# EAGLE library part JP5Q_CUSTOM (library jumper_custom)
JUMPER
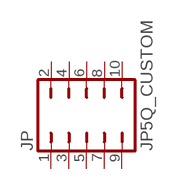
[diagram p0: symbol with the pads of JP5Q_custom; footprint ]

Designator prefix JP

## JP5Q_CUSTOM  [JP5Q_custom]
1  1  pas
2  2  pas
3  3  pas
4  4  pas
5  5  pas
6  6  pas
7  7  pas
8  8  pas
9  9  pas
10  10  pas